# EAGLE library part MEBP_8-8G (library debauer_con)
Reichelt RJ45 geschirmt MEBP 8-8G
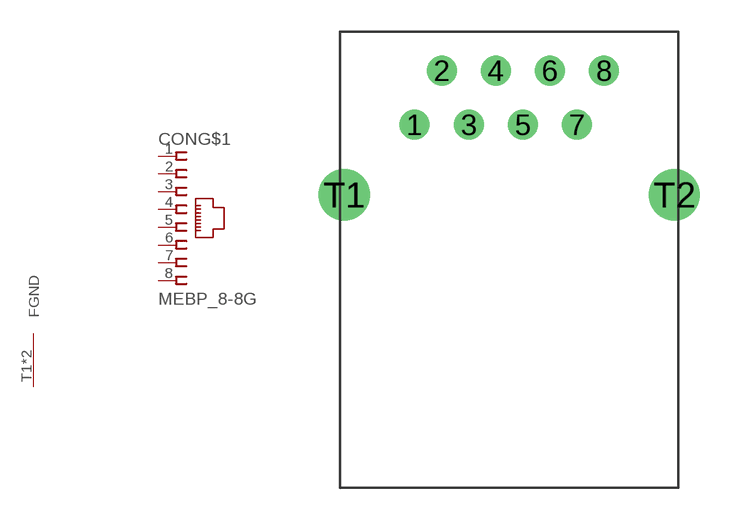
[diagram p2: symbol with the pads of MEBP; footprint MEBP]

Designator prefix CON; gates G$1=RJ45 G$2=FGND

## MEBP_8-8G  [MEBP]
1  G$1:1  pas
2  G$1:2  pas
3  G$1:3  pas
4  G$1:4  pas
5  G$1:5  pas
6  G$1:6  pas
7  G$1:7  pas
8  G$1:8  pas
T1  G$2:FGND  pwr
T2  G$2:FGND  pwr

## Footprint MEBP (pad centres in mm)
drill 0.9: 1 -4.445,6.35; 2 -3.175,8.89; 3 -1.9,6.35; 4 -0.635,8.89; 5 0.635,6.35; 6 1.9,8.89; 7 3.175,6.35; 8 4.445,8.89
drill 1.6: T1 -7.75,3.05; T2 7.75,3.05